# Altium schematic symbol library SCH - POWER - LINEAR VREG - TI TL1963A DCY.SCHLIB: 1 symbol
Pins are listed as number, name and electrical type; pins without a type are passive.

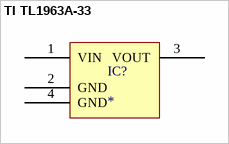
[diagram p0: symbol TI TL1963A-33]

## TI TL1963A-33
designator IC?
Linear Voltage Regulator IC 1 Output 1.5A
pins: 1 VIN "Desc1", 2 GND "Desc1", 3 VOUT "Desc1", 4 GND "Desc1"